# Altium footprint library PCB - POWER INDUCTORS - WURTH WE-HCI 1890.PcbLib: 1 footprints
Each footprint in its own frame and in the unit in brackets; x right, y up, seen from the top. Pads: shape width x height; smd on the part's side, far side on the other; paste and mask are expansions set on the pad; w line width, h text height; cw(c..) or ccw(c..) is an arc to the next point about the centre after c.
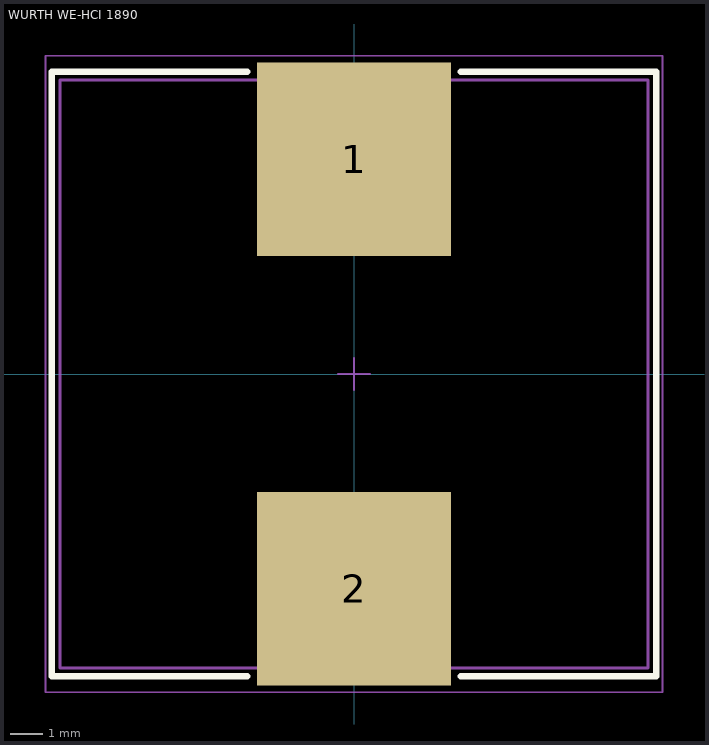
[diagram p0: the footprint, top view; thin cyan lines are the x and y axes]

## WURTH WE-HCI 1890 [mm] "SMT Flat Wire High Current Inductor, body 18.2x18.2mm"
height 8.9
pads (2):
  rect 6x6 smd: 1(0,6.65) 2(0,-6.65)
Top Overlay:
  lines w0.2: -3.3,-9.35 -9.35,-9.35 -9.35,9.35 -3.3,9.35 ; 3.3,-9.35 9.35,-9.35 9.35,9.35 3.3,9.35
Top Assembly:
  lines w0.1: -9.1,-9.1 9.1,-9.1 9.1,9.1 -9.1,9.1 -9.1,-9.1
Top Component Outline:
  lines w0.1: -9.1,-9.1 9.1,-9.1 9.1,9.1 -9.1,9.1 -9.1,-9.1
Top Courtyard:
  lines w0.05: -0.5,0 0.5,0 ; 0,-0.5 0,0.5 ; -9.55,-9.85 9.55,-9.85 9.55,9.85 -9.55,9.85 -9.55,-9.85
3D body "7443556xxx.stp": height 8.9, standoff 0, extent -9.1,-9.15 9.1,9.15